# Altium schematic symbol library VLCF4024T-220MR65-2.SchLib: 1 symbol
Pins are listed as number, name and electrical type; pins without a type are passive.

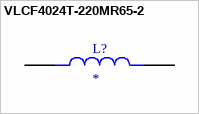
[diagram p0: symbol VLCF4024T-220MR65-2]

## VLCF4024T-220MR65-2
designator L?
MF: {'manufacturer': u'TDK Corporation'}; MP: VLCF4024T-220MR65-2; Package: None; Price: None; Value: *; Availability: Unavailable
footprint IND_VLCF4024T-220MR65-2
pins: 1, 2